# EAGLE library part 1985276 (library Connectors-Phoenix Contact)
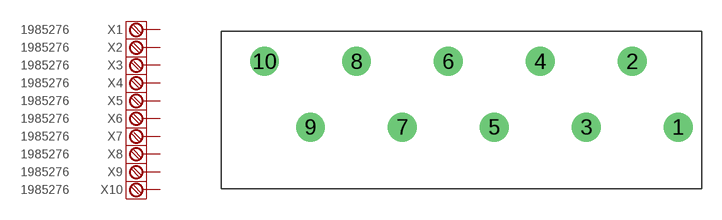
[diagram p2: symbol with the pads of TB-3.5-10POS-ZIGZAG; footprint TB-3.5-10POS-ZIGZAG]

Designator prefix X; gates 1=TB-PIN-1-9 2=TB-PIN-1-9 3=TB-PIN-1-9 4=TB-PIN-1-9 5=TB-PIN-1-9 6=TB-PIN-1-9 7=TB-PIN-1-9 8=TB-PIN-1-9 9=TB-PIN-1-9 10=TB-PIN-1-9

## 1985276 (DESCRIPTION: value; LINK: value; MANUFACTURER: value; PACKAGE: value; PART_NUMBER: value)  [TB-3.5-10POS-ZIGZAG]
1  1:1  pas
2  2:1  pas
3  3:1  pas
4  4:1  pas
5  5:1  pas
6  6:1  pas
7  7:1  pas
8  8:1  pas
9  9:1  pas
10  10:1  pas

## Footprint TB-3.5-10POS-ZIGZAG (pad centres in mm)
drill 1.1 pad 2.2: 1 7,0; 2 3.5,5; 3 0,0; 4 -3.5,5; 5 -7,0; 6 -10.5,5; 7 -14,0; 8 -17.5,5; 9 -21,0; 10 -24.5,5